# Altium footprint library BA78XXFP-E2.PcbLib: 4 footprints
Each footprint in its own frame and in the unit in brackets; x right, y up, seen from the top. Pads: shape width x height; smd on the part's side, far side on the other; paste and mask are expansions set on the pad; w line width, h text height; cw(c..) or ccw(c..) is an arc to the next point about the centre after c.
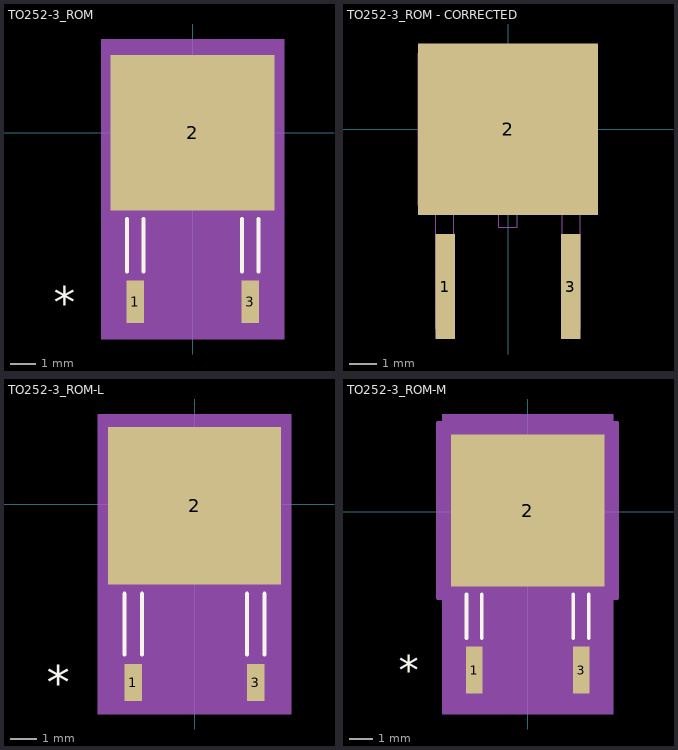
[diagram p0: the footprints below, top view; thin cyan lines are the x and y axes]

## TO252-3_ROM [mil]
pads (3):
  rect 28x67 smd paste+0 mask+0: 1(-90.55,-266) 3(90.55,-266)
  rect 258x245 smd paste+0 mask+0: 2(0,0)
Top Overlay:
  lines w6: -103.55,-218.5 -103.55,-135.6 ; -77.55,-218.5 -77.55,-135.6 ; 77.55,-218.5 77.55,-135.6 ; 103.55,-218.5 103.55,-135.6
  text "*" at -218.6,-291 h50
Mechanical 5:
  region: -144,147.5 144,147.5 144,-324.5 -144,-324.5
Mechanical 13:
  lines w1: -13,-108.5 -13,-140.5 13,-140.5 13,-108.5 ; -128,-108.5 128,-108.5 128,108.5 -128,108.5 -128,-108.5 ; -103.55,-285.5 -103.55,-108.5 -77.55,-108.5 -77.55,-285.5 -103.55,-285.5 ; 77.55,-285.5 77.55,-108.5 103.55,-108.5 103.55,-285.5 77.55,-285.5
  text "*" at -103.05,-123.5 h50
Mechanical 15:
  region: -113.55,-132.5 -140,-132.5 -140,132.5 140,132.5 140,-132.5 113.55,-132.5 113.55,-309.5 67.55,-309.5 67.55,-242.5 -67.55,-242.5 -67.55,-309.5 -113.55,-309.5
  lines w6: -140,-132.5 -140,132.5 140,132.5 140,-132.5 113.55,-132.5 113.55,-309.5 67.55,-309.5 67.55,-242.5 -67.55,-242.5 -67.55,-309.5 -113.55,-309.5 -113.55,-132.5 -140,-132.5
3D body "TO252-3_ROM.step": height 98.11, standoff -2.01, extent -127.99,-177.52 127.99,108.58

## TO252-3_ROM - CORRECTED [mil]
pads (3):
  rect 28x150 smd paste+0 mask+0: 1(-90,-225) 3(90,-225)
  rect 258x245 smd paste+0 mask+0: 2(0,0)
Mechanical 13:
  lines w1: -13,-108.5 -13,-140.5 13,-140.5 13,-108.5 ; -128,-108.5 -128,108.5 128,108.5 128,-108.5 -128,-108.5 ; -103.55,-285.5 -103.55,-108.5 -77.55,-108.5 -77.55,-285.5 -103.55,-285.5 ; 77.55,-285.5 103.55,-285.5 103.55,-108.5 77.55,-108.5 77.55,-285.5
  text "*" at -103.05,-123.5 h50
3D body "TO252-3_ROM.step": height 98.11, standoff -2.01, extent -127.99,-177.52 127.99,108.58

## TO252-3_ROM-L [mil]
pads (3):
  rect 26x55 smd paste+0 mask+0: 1(-90.55,-264) 3(90.55,-264)
  rect 256x233 smd paste+0 mask+0: 2(0,-2)
Top Overlay:
  lines w6: -103.55,-222.5 -103.55,-132.5 ; -77.55,-222.5 -77.55,-132.5 ; 77.55,-222.5 77.55,-132.5 ; 103.55,-222.5 103.55,-132.5
  text "*" at -218.6,-289 h50
Mechanical 5:
  region: -143,133.5 143,133.5 143,-310.5 -143,-310.5
Mechanical 13:
  lines w1: -13,-108.5 -13,-140.5 13,-140.5 13,-108.5 ; -128,-108.5 -128,108.5 128,108.5 128,-108.5 -128,-108.5 ; -103.55,-285.5 -77.55,-285.5 -77.55,-108.5 -103.55,-108.5 -103.55,-285.5 ; 77.55,-285.5 103.55,-285.5 103.55,-108.5 77.55,-108.5 77.55,-285.5
  text "*" at -103.05,-123.5 h50
Mechanical 15:
  region: -107.55,-122.5 -132,-122.5 -132,118.5 132,118.5 132,-122.5 107.55,-122.5 107.55,-295.5 73.55,-295.5 73.55,-240.5 -73.55,-240.5 -73.55,-295.5 -107.55,-295.5
  lines w6: -132,-122.5 -107.55,-122.5 -107.55,-295.5 -73.55,-295.5 -73.55,-240.5 73.55,-240.5 73.55,-295.5 107.55,-295.5 107.55,-122.5 132,-122.5 132,118.5 -132,118.5 -132,-122.5
3D body "TO252-3_ROM.step": height 98.11, standoff -2.01, extent -127.99,-177.52 127.99,108.58

## TO252-3_ROM-M [mil]
pads (3):
  rect 28x79 smd paste+0 mask+0: 1(-90.55,-268) 3(90.55,-268)
  rect 260x257 smd paste+0 mask+0: 2(0,2)
Top Overlay:
  lines w6: -103.55,-214.5 -103.55,-139.6 ; -77.55,-214.5 -77.55,-139.6 ; 77.55,-214.5 77.55,-139.6 ; 103.55,-214.5 103.55,-139.6
  text "*" at -218.6,-293 h50
Mechanical 5:
  region: -145,165.5 145,165.5 145,-342.5 -145,-342.5
Mechanical 13:
  lines w1: -13,-108.5 -13,-140.5 13,-140.5 13,-108.5 ; -128,-108.5 -128,108.5 128,108.5 128,-108.5 -128,-108.5 ; -103.55,-285.5 -77.55,-285.5 -77.55,-108.5 -103.55,-108.5 -103.55,-285.5 ; 77.55,-285.5 103.55,-285.5 103.55,-108.5 77.55,-108.5 77.55,-285.5
  text "*" at -103.05,-123.5 h50
Mechanical 15:
  region: -123.55,-146.5 -152,-146.5 -152,150.5 152,150.5 152,-146.5 123.55,-146.5 123.55,-327.5 57.55,-327.5 57.55,-248.5 -57.55,-248.5 -57.55,-327.5 -123.55,-327.5
  lines w6: -152,-146.5 -123.55,-146.5 -123.55,-327.5 -57.55,-327.5 -57.55,-248.5 57.55,-248.5 57.55,-327.5 123.55,-327.5 123.55,-146.5 152,-146.5 152,150.5 -152,150.5 -152,-146.5
3D body "TO252-3_ROM.step": height 98.11, standoff -2.01, extent -127.99,-177.52 127.99,108.58